# EAGLE library part ADUC702?* (library LMV358)
Precision Analog Microcontroller 12-bit Analog I/O, ARM7TDMI® MCU ADuC7022/24 Source: http://www.analog.com/UploadedFiles/Data_Sheets/288945048AD7C7019_20_1_2_4_5_6_7_0.pdf
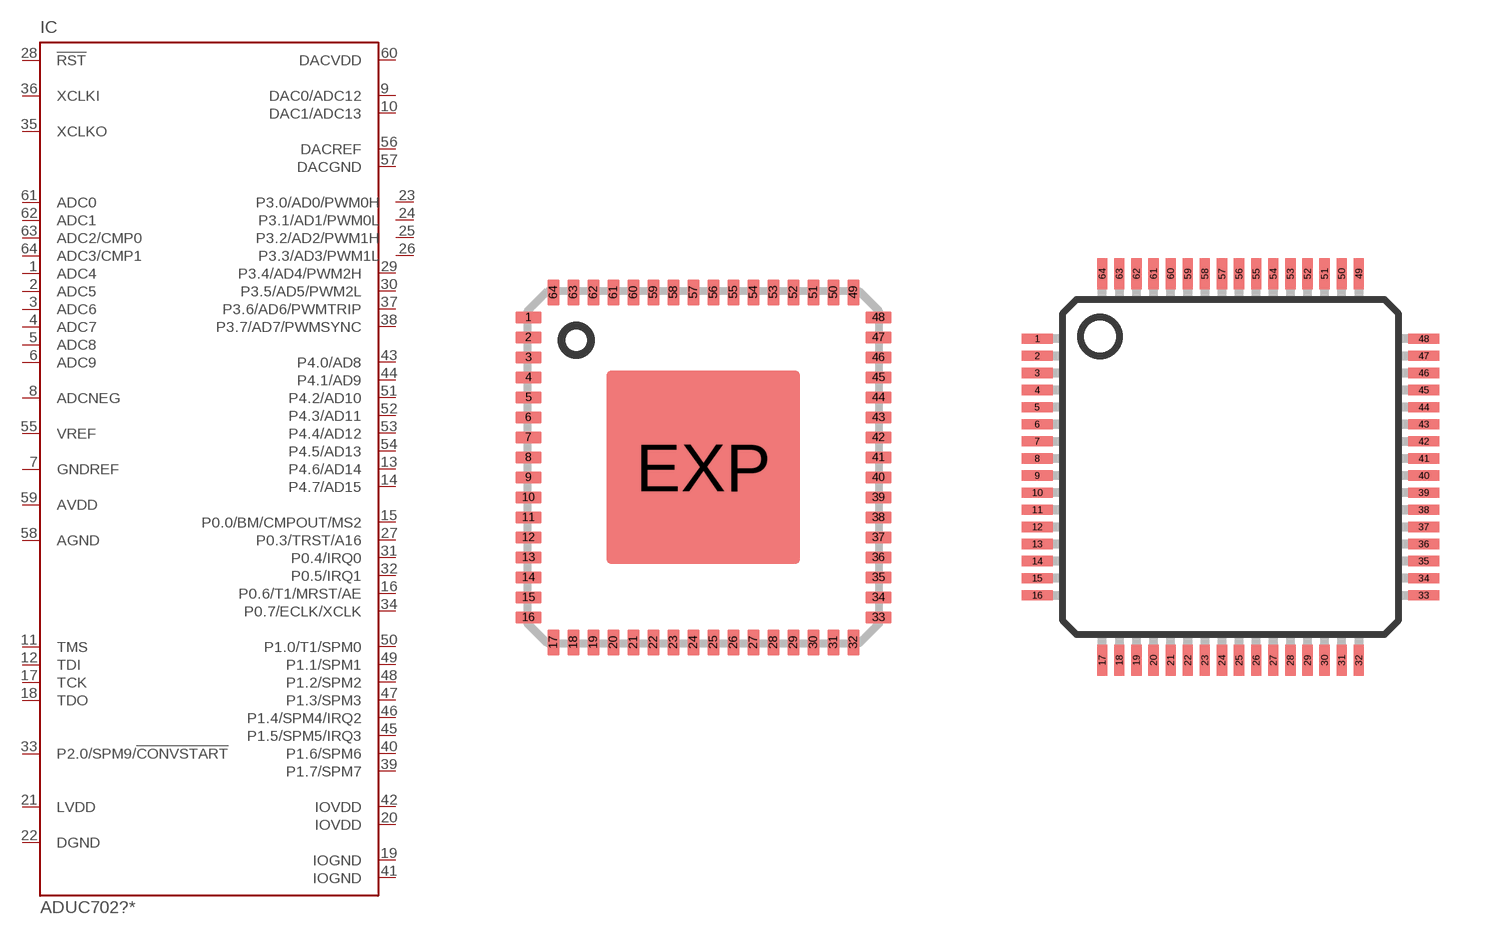
[diagram p38: symbol with the pads of LFCSP64; footprints LFCSP64, LQFP-ST-64-2]

Designator prefix IC

## ADUC7024BCPZ62 (OC_FARNELL: unknown; OC_NEWARK: unknown), ADUC7024BCPZ62-RL (OC_FARNELL: unknown; OC_NEWARK: unknown), ADUC7024BCPZ62-RL7 (OC_FARNELL: unknown; OC_NEWARK: unknown)  [LFCSP64]
1  ADC4  in
2  ADC5  in
3  ADC6  in
4  ADC7  in
5  ADC8  in
6  ADC9  in
7  GNDREF  in
8  ADCNEG  in
9  DAC0/ADC12  in
10  DAC1/ADC13  in
11  TMS  in
12  TDI  in
13  P4.6/AD14
14  P4.7/AD15
15  P0.0/BM/CMPOUT/MS2
16  P0.6/T1/MRST/AE
17  TCK  in
18  TDO  out
19  IOGND  pwr
20  IOVDD  pwr
21  LVDD  out
22  DGND  pwr
23  P3.0/AD0/PWM0H  out
24  P3.1/AD1/PWM0L  out
25  P3.2/AD2/PWM1H  out
26  P3.3/AD3/PWM1L  out
27  P0.3/TRST/A16
28  !RST  in
29  P3.4/AD4/PWM2H  out
30  P3.5/AD5/PWM2L  out
31  P0.4/IRQ0
32  P0.5/IRQ1
33  P2.0/SPM9/!CONVSTART
34  P0.7/ECLK/XCLK
35  XCLKO  out
36  XCLKI  in
37  P3.6/AD6/PWMTRIP  out
38  P3.7/AD7/PWMSYNC  out
39  P1.7/SPM7
40  P1.6/SPM6
41  IOGND  pwr
42  IOVDD  pwr
43  P4.0/AD8
44  P4.1/AD9
45  P1.5/SPM5/IRQ3
46  P1.4/SPM4/IRQ2
47  P1.3/SPM3
48  P1.2/SPM2
49  P1.1/SPM1
50  P1.0/T1/SPM0
51  P4.2/AD10
52  P4.3/AD11
53  P4.4/AD12
54  P4.5/AD13
55  VREF  pas
56  DACREF  in
57  DACGND  pwr
58  AGND  pwr
59  AVDD  pwr
60  DACVDD  pwr
61  ADC0  in
62  ADC1  in
63  ADC2/CMP0  in
64  ADC3/CMP1  in

## ADUC7024BSTZ62 (MPN: ADUC7024BSTZ62-RL; OC_FARNELL: unknown; OC_NEWARK: 12M8337), ADUC7024BSTZ62-RL (OC_FARNELL: unknown; OC_NEWARK: unknown)  [LQFP-ST-64-2]
Pads as for LFCSP64

## ADUC7025BCPZ32 (OC_FARNELL: unknown; OC_NEWARK: unknown), ADUC7025BCPZ32-RL (OC_FARNELL: unknown; OC_NEWARK: unknown), ADUC7025BCPZ32-RL7 (OC_FARNELL: unknown; OC_NEWARK: unknown), ADUC7025BCPZ62 (OC_FARNELL: unknown; OC_NEWARK: unknown), ADUC7025BCPZ62-RL (OC_FARNELL: unknown; OC_NEWARK: unknown), ADUC7025BCPZ62-RL7 (OC_FARNELL: unknown; OC_NEWARK: unknown)  [LFCSP64]
Pads as for LFCSP64

## ADUC7025BSTZ62 (MPN: ADUC7025BSTZ62-RL; OC_FARNELL: unknown; OC_NEWARK: 12M8345), ADUC7025BSTZ62-RL (OC_FARNELL: unknown; OC_NEWARK: unknown)  [LQFP-ST-64-2]
Pads as for LFCSP64

## Footprint LFCSP64 (pad centres in mm)
64-Lead Lead Frame Chip Scale Package [LFCSP] CP-64-1 9 x 9 mm Body Source: http://www.analog.com/UploadedFiles/Packages/40887351787287CP_64_1.pdf
smd 0.65 x 0.3: 1 -4.375,3.75; 2 -4.375,3.25; 3 -4.375,2.75; 4 -4.375,2.25; 5 -4.375,1.75; 6 -4.375,1.25; 7 -4.375,0.75; 8 -4.375,0.25; 9 -4.375,-0.25; 10 -4.375,-0.75; 11 -4.375,-1.25; 12 -4.375,-1.75; 13 -4.375,-2.25; 14 -4.375,-2.75; 15 -4.375,-3.25; 16 -4.375,-3.75; 33 4.375,-3.75; 34 4.375,-3.25; 35 4.375,-2.75; 36 4.375,-2.25; 37 4.375,-1.75; 38 4.375,-1.25; 39 4.375,-0.75; 40 4.375,-0.25; 41 4.375,0.25; 42 4.375,0.75; 43 4.375,1.25; 44 4.375,1.75; 45 4.375,2.25; 46 4.375,2.75; 47 4.375,3.25; 48 4.375,3.75
smd 0.3 x 0.65: 17 -3.75,-4.375; 18 -3.25,-4.375; 19 -2.75,-4.375; 20 -2.25,-4.375; 21 -1.75,-4.375; 22 -1.25,-4.375; 23 -0.75,-4.375; 24 -0.25,-4.375; 25 0.25,-4.375; 26 0.75,-4.375; 27 1.25,-4.375; 28 1.75,-4.375; 29 2.25,-4.375; 30 2.75,-4.375; 31 3.25,-4.375; 32 3.75,-4.375; 49 3.75,4.375; 50 3.25,4.375; 51 2.75,4.375; 52 2.25,4.375; 53 1.75,4.375; 54 1.25,4.375; 55 0.75,4.375; 56 0.25,4.375; 57 -0.25,4.375; 58 -0.75,4.375; 59 -1.25,4.375; 60 -1.75,4.375; 61 -2.25,4.375; 62 -2.75,4.375; 63 -3.25,4.375; 64 -3.75,4.375
smd 4.85 x 4.85: EXP 0,0

## Footprint LQFP-ST-64-2 (pad centres in mm)
64-Lead Low Profile Quad Flat Package [LQFP] (ST-64-2) COMPLIANT TO JEDEC STANDARDS MS-026-BCD Source: http://www.analog.com/UploadedFiles/Data_Sheets/288945048AD7C7019_20_1_2_4_5_6_7_0.pdf
smd 0.9 x 0.3: 1 -5.65,3.75; 2 -5.65,3.25; 3 -5.65,2.75; 4 -5.65,2.25; 5 -5.65,1.75; 6 -5.65,1.25; 7 -5.65,0.75; 8 -5.65,0.25; 9 -5.65,-0.25; 10 -5.65,-0.75; 11 -5.65,-1.25; 12 -5.65,-1.75; 13 -5.65,-2.25; 14 -5.65,-2.75; 15 -5.65,-3.25; 16 -5.65,-3.75; 33 5.65,-3.75; 34 5.65,-3.25; 35 5.65,-2.75; 36 5.65,-2.25; 37 5.65,-1.75; 38 5.65,-1.25; 39 5.65,-0.75; 40 5.65,-0.25; 41 5.65,0.25; 42 5.65,0.75; 43 5.65,1.25; 44 5.65,1.75; 45 5.65,2.25; 46 5.65,2.75; 47 5.65,3.25; 48 5.65,3.75
smd 0.3 x 0.9: 17 -3.75,-5.65; 18 -3.25,-5.65; 19 -2.75,-5.65; 20 -2.25,-5.65; 21 -1.75,-5.65; 22 -1.25,-5.65; 23 -0.75,-5.65; 24 -0.25,-5.65; 25 0.25,-5.65; 26 0.75,-5.65; 27 1.25,-5.65; 28 1.75,-5.65; 29 2.25,-5.65; 30 2.75,-5.65; 31 3.25,-5.65; 32 3.75,-5.65; 49 3.75,5.65; 50 3.25,5.65; 51 2.75,5.65; 52 2.25,5.65; 53 1.75,5.65; 54 1.25,5.65; 55 0.75,5.65; 56 0.25,5.65; 57 -0.25,5.65; 58 -0.75,5.65; 59 -1.25,5.65; 60 -1.75,5.65; 61 -2.25,5.65; 62 -2.75,5.65; 63 -3.25,5.65; 64 -3.75,5.65